# Altium footprint library pcb_mk32_dsd_2022-03-23.PcbLib: 35 footprints (part 2 of 3)
Each footprint in its own frame and in the unit in brackets; x right, y up, seen from the top. Pads: shape width x height; smd on the part's side, far side on the other; paste and mask are expansions set on the pad; w line width, h text height; cw(c..) or ccw(c..) is an arc to the next point about the centre after c.
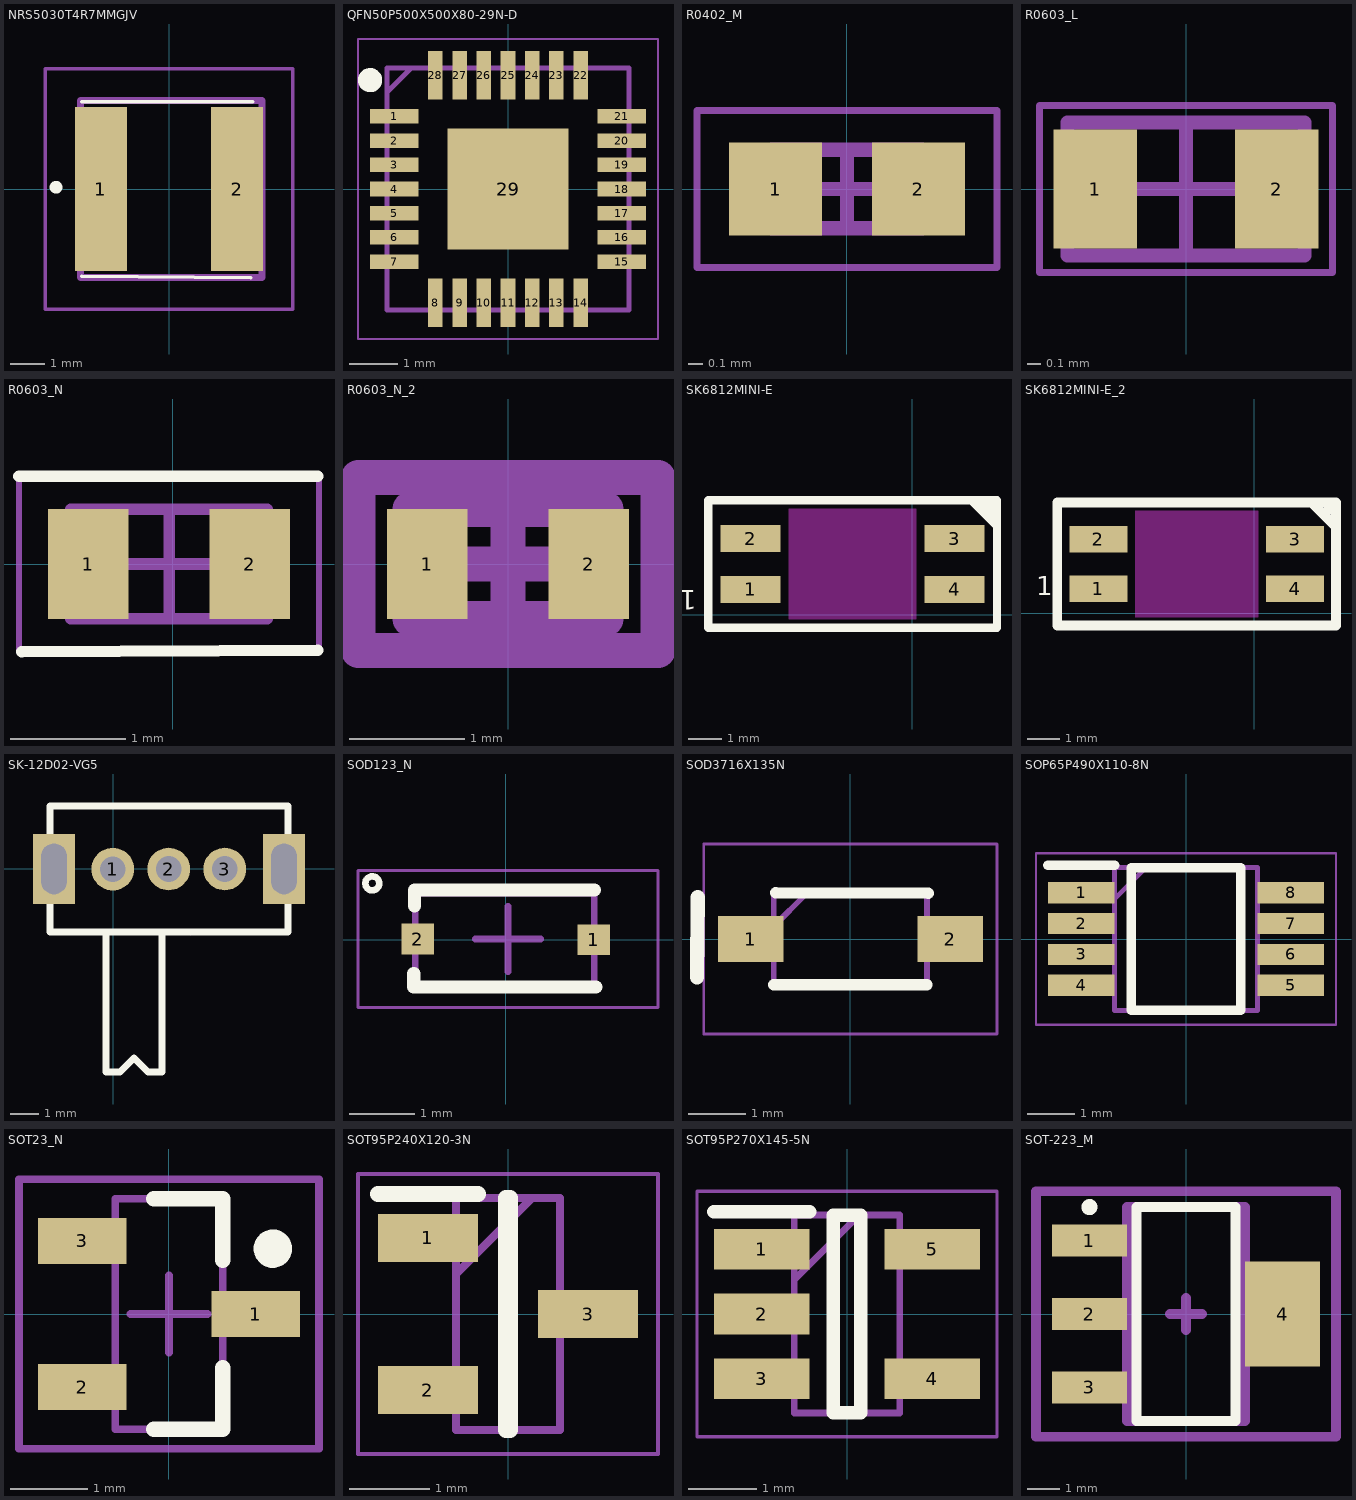
[diagram p1: the footprints below, top view; thin cyan lines are the x and y axes]

## NRS5030T4R7MMGJV [mm]
pads (2):
  rect 1.5x4.7 smd: 1(-1.95,0) 2(1.95,0)
Top Overlay:
  circle w0.254: c-3.238,0.051 r0.054
  lines w0.1: -2.5,-2.5 2.35,-2.55 ; -2.5,2.5 2.4,2.5
Mechanical 13:
  lines w0.2: -2.54,-2.54 2.667,-2.54 2.667,2.54 -2.54,2.54 -2.54,-2.54
Mechanical 15:
  lines w0.1: -3.55,-3.45 3.55,-3.45 3.55,3.45 -3.55,3.45 -3.55,-3.45
3D body "NRS5030T4R7MMGJV.stp": height 3.2, standoff 0, extent -2.45,-2.45 2.45,2.45

## QFN50P500X500X80-29N-D [mm]
pads (29):
  rect 1x0.3 smd: 1(-2.35,1.5) 2(-2.35,1) 3(-2.35,0.5) 4(-2.35,0) 5(-2.35,-0.5) 6(-2.35,-1) 7(-2.35,-1.5) 15(2.35,-1.5) 16(2.35,-1) 17(2.35,-0.5) 18(2.35,0) 19(2.35,0.5) 20(2.35,1) 21(2.35,1.5)
  rect 0.3x1 smd: 8(-1.5,-2.35) 9(-1,-2.35) 10(-0.5,-2.35) 11(0,-2.35) 12(0.5,-2.35) 13(1,-2.35) 14(1.5,-2.35) 22(1.5,2.35) 23(1,2.35) 24(0.5,2.35) 25(0,2.35) 26(-0.5,2.35) 27(-1,2.35) 28(-1.5,2.35)
  rect 2.5x2.5 smd: 29(0,0)
Top Overlay:
  circle w0.25: c-2.85,2.25 r0.125
Mechanical 13:
  lines w0.1: -2.5,2 -2,2.5 ; -2.5,-2.5 2.5,-2.5 2.5,2.5 -2.5,2.5 -2.5,-2.5
Mechanical 15:
  lines w0.05: -3.1,-3.1 3.1,-3.1 3.1,3.1 -3.1,3.1 -3.1,-3.1
3D body "CP2102N-A02-GQFN28R.stp": height 0.8, standoff 0, extent -2.55,-2.55 2.55,2.55

## R0402_M [mm] "Chip Resistor, 2-Leads, Body 1.00x0.50mm, IPC Low Density"
height 0.35
pads (2):
  rect 0.65x0.65 smd: 1(-0.5,0) 2(0.5,0)
Mechanical 13:
  lines w0.1: -0.525,-0.275 0.525,-0.275 0.525,0.275 -0.525,0.275 -0.525,-0.275
Mechanical 15:
  lines w0.05: -1.05,-0.55 1.05,-0.55 1.05,0.55 -1.05,0.55 -1.05,-0.55
  lines w0.1: -0.275,0 0.275,0 ; 0,-0.275 0,0.275
3D body "R0402_M.step": height 0.35, standoff 0, extent -0.525,-0.275 0.525,0.275

## R0603_L [mm] "Chip Resistor, 2-Leads, Body 1.60x0.82mm, IPC High Density"
height 0.6
pads (2):
  rect 0.6x0.85 smd: 1(-0.65,0) 2(0.65,0)
Mechanical 13:
  lines w0.1: -0.85,-0.475 0.85,-0.475 0.85,0.475 -0.85,0.475 -0.85,-0.475
Mechanical 15:
  lines w0.05: -1.05,-0.6 1.05,-0.6 1.05,0.6 -1.05,0.6 -1.05,-0.6
  lines w0.1: -0.475,0 0.475,0 ; 0,-0.475 0,0.475
3D body "R0603L.step": height 0.6, standoff 0, extent -0.85,-0.475 0.85,0.475

## R0603_N [mm]
pads (2):
  rect 0.7x0.95 smd: 1(-0.733,0) 2(0.667,0)
Top Overlay:
  lines w0.1: -1.333,0.762 1.257,0.762 ; -1.308,-0.762 1.257,-0.749
Mechanical 13:
  lines w0.1: -0.883,-0.475 -0.883,0.475 0.817,0.475 0.817,-0.475 -0.883,-0.475
Mechanical 15:
  lines w0.05: -1.333,-0.75 -1.333,0.75 1.267,0.75 1.267,-0.75 -1.333,-0.75
  lines w0.1: -0.508,0 0.442,0 ; -0.033,-0.475 -0.033,0.475
3D body "R0603N.step": height 0.6, standoff 0, extent -0.883,-0.475 0.817,0.475

## R0603_N_2 [mm]
pads (2):
  rect 0.7x0.95 smd: 1(-0.7,0) 2(0.7,0)
Mechanical 13:
  lines w0.305: -0.85,-0.475 0.85,-0.475 0.85,0.475 -0.85,0.475 -0.85,-0.475
Mechanical 15:
  lines w0.305: -0.475,0 0.475,0 ; 0,-0.475 0,0.475 ; -1.3,-0.75 1.3,-0.75 1.3,0.75 -1.3,0.75 -1.3,-0.75
3D body "R0603N.step": height 0.6, standoff 0, extent -0.85,-0.475 0.85,0.475

## SK6812MINI-E [mm]
pads (4):
  rect 1.8x0.82 smd: 1(-4.826,0.762) 2(-4.826,2.286) 3(1.27,2.286) 4(1.27,0.762)
Top Overlay:
  lines w0.254: 1.778,3.429 2.54,2.667 ; -6.096,-0.381 2.54,-0.381 2.54,3.429 -6.096,3.429 -6.096,-0.381
  lines w0.508: 2.286,3.175 2.413,3.302
  text "1" at -6.426,0.94 h1
Keep-Out Layer:
  board cut-out: 0.127,-0.127 -3.683,-0.127 -3.683,1.27 -3.683,3.175 0.127,3.175

## SK6812MINI-E_2 [mm]
pads (4):
  rect 1.8x0.82 smd: 1(-4.826,0.762) 2(-4.826,2.286) 3(1.27,2.286) 4(1.27,0.762)
Top Overlay:
  lines w0.305: 1.778,3.429 2.54,2.667 ; 2.286,3.175 2.413,3.302 ; -6.096,-0.381 -6.096,3.429 2.54,3.429 2.54,-0.381 -6.096,-0.381
  text "1" at -6.756,0.356 h1
Keep-Out Layer:
  board cut-out: 0.127,-0.127 -3.683,-0.127 -3.683,1.27 -3.683,3.175 0.127,3.175

## SK-12D02-VG5 [mil] "SK-12D02-VG5"
pads (5):
  round 60 hole 36: 1(-0.57,-0.85) 2(78.03,-0.75) 3(156.73,-0.75)
  rect 59.05x98.42 hole 36 slot 70.87 at 90 deg: ""(-83.07,-0.55) ""(239.85,-0.55)
Top Overlay:
  lines w10: -10.23,-89.15 -10.23,-286 9.45,-286 29.14,-266.31 48.82,-286 68.51,-286 68.51,-89.15 ; -88.97,-89.15 245.67,-89.15 245.67,88.02 -88.97,88.02 -88.97,-89.15
Mechanical 15:
  lines w0.1: 108.38,-94 108.4,-93.98

## SOD123_N [mm]
pads (2):
  rect 0.5x0.47 smd: 1(1.35,0) 2(-1.35,0.011)
Top Overlay:
  circle w0.1: c-2.045,0.864 r0.108
  lines w0.2: -1.41,-0.521 -1.41,-0.724 1.384,-0.724 ; -1.397,0.521 -1.397,0.762 1.359,0.762
Mechanical 13:
  lines w0.1: -1.384,-0.724 -1.384,0.711 1.359,0.711 1.359,-0.724 -1.384,-0.724
Mechanical 15:
  lines w0.05: -2.264,-1.039 -2.264,1.061 2.336,1.061 2.336,-1.039 -2.264,-1.039
  lines w0.1: -0.464,0.011 0.536,0.011 ; 0.036,-0.489 0.036,0.511
3D body "SOD-323.STEP": height 1.17, standoff 0.02, extent -1.35,-0.723 1.35,0.723

## SOD3716X135N [mm]
pads (2):
  rect 1.15x0.8 smd: 1(-1.75,0) 2(1.75,0)
Top Overlay:
  lines w0.2: -1.345,-0.8 1.345,-0.8 ; -1.308,0.813 1.371,0.8
  lines w0.254: -2.692,-0.673 -2.68,0.737
Mechanical 13:
  lines w0.1: -1.345,0.225 -0.77,0.8 ; -1.345,-0.8 -1.345,0.8 1.345,0.8 1.345,-0.8 -1.345,-0.8
Mechanical 15:
  lines w0.05: -2.575,-1.67 -2.575,1.67 2.575,1.67 2.575,-1.67 -2.575,-1.67
3D body "MBR130T3G.stp": height 1.35, standoff 0, extent -1.855,-0.8 1.855,0.8

## SOP65P490X110-8N [mm]
pads (8):
  rect 1.4x0.45 smd: 1(-2.2,0.975) 2(-2.2,0.325) 3(-2.2,-0.325) 4(-2.2,-0.975) 5(2.2,-0.975) 6(2.2,-0.325) 7(2.2,0.325) 8(2.2,0.975)
Top Overlay:
  lines w0.2: -2.9,1.55 -1.5,1.55 ; -1.15,-1.5 1.15,-1.5 1.15,1.5 -1.15,1.5 -1.15,-1.5
Mechanical 13:
  lines w0.1: -1.5,0.85 -0.85,1.5 ; -1.5,-1.5 1.5,-1.5 1.5,1.5 -1.5,1.5 -1.5,-1.5
Mechanical 15:
  lines w0.05: -3.15,-1.8 3.15,-1.8 3.15,1.8 -3.15,1.8 -3.15,-1.8
3D body "LM358DGKR.stp": height 1.1, standoff 0, extent -2.45,-1.5 2.45,1.5

## SOT23_N [mm] "SOT23, 3-Leads, Body 2.9x1.3mm, Pitch 0.95mm, Lead Span 2.3mm - Reverse Pinning, IPC Medium Density"
height 1.1
pads (3):
  rect 1.15x0.6 smd: 1(1.125,0) 2(-1.125,-0.95) 3(-1.125,0.95)
Top Overlay:
  circle w0.25: c1.35,0.85 r0.125
  lines w0.2: -0.2,-1.5 0.7,-1.5 0.7,-0.7 ; -0.2,1.5 0.7,1.5 0.7,0.7
Mechanical 13:
  lines w0.1: -0.7,-1.5 -0.7,1.5 0.7,1.5 0.7,-1.5 -0.7,-1.5
Mechanical 15:
  lines w0.1: -0.5,0 0.5,0 ; 0,-0.5 0,0.5 ; -1.95,-1.75 -1.95,1.75 1.95,1.75 1.95,-1.75 -1.95,-1.75
3D body: height 1.1, standoff 0, extent -0.7,-1.5 0.7,1.5

## SOT95P240X120-3N [mm]
pads (3):
  rect 1.25x0.6 smd: 1(-1,0.95) 2(-1,-0.95) 3(1,0)
Top Overlay:
  lines w0.2: -1.625,1.5 -0.375,1.5 ; -0.025,-1.45 0.025,-1.45 0.025,1.45 -0.025,1.45 -0.025,-1.45
Mechanical 13:
  lines w0.1: -0.65,0.5 0.3,1.45 ; -0.65,-1.45 0.65,-1.45 0.65,1.45 -0.65,1.45 -0.65,-1.45
Mechanical 15:
  lines w0.05: -1.875,-1.75 1.875,-1.75 1.875,1.75 -1.875,1.75 -1.875,-1.75
3D body "SI2301.stp": height 1.2, standoff 0, extent -1.2,-1.45 1.2,1.45

## SOT95P270X145-5N [mm]
pads (5):
  rect 1.4x0.6 smd: 1(-1.25,0.95) 2(-1.25,0) 3(-1.25,-0.95) 4(1.25,-0.95) 5(1.25,0.95)
Top Overlay:
  lines w0.2: -1.95,1.5 -0.55,1.5 ; -0.2,-1.45 -0.2,1.45 0.2,1.45 0.2,-1.45 -0.2,-1.45
Mechanical 13:
  lines w0.1: -0.775,0.5 0.175,1.45 ; -0.775,-1.45 -0.775,1.45 0.775,1.45 0.775,-1.45 -0.775,-1.45
Mechanical 15:
  lines w0.05: -2.2,-1.8 -2.2,1.8 2.2,1.8 2.2,-1.8 -2.2,-1.8
3D body "MCP73831T-2ACI_OT.stp": height 1.45, standoff 0, extent -1.35,-1.45 1.35,1.45

## SOT-223_M [mm] "SOT223, 4-Leads, Body 6.50x7.00mm (avg), Pitch 2.30mm, IPC Low Density"
height 1.8
pads (4):
  rect 2.35x1 smd: 1(-3.025,2.3) 2(-3.025,0) 3(-3.025,-2.3)
  rect 2.35x3.3 smd: 4(3.025,0)
Top Overlay:
  circle w0.25: c-3.025,3.35 r0.125
  lines w0.305: -1.55,-3.35 1.55,-3.35 1.55,3.35 -1.55,3.35 -1.55,-3.35
Mechanical 13:
  lines w0.305: -1.85,-3.35 1.85,-3.35 1.85,3.35 -1.85,3.35 -1.85,-3.35
Mechanical 15:
  lines w0.305: -0.5,0 0.5,0 ; 0,-0.5 0,0.5 ; -4.7,-3.85 4.7,-3.85 4.7,3.85 -4.7,3.85 -4.7,-3.85
3D body "SO-T223_M.step": height 1.8, standoff 0, extent -3.5,-3.35 3.5,3.35